# EAGLE library part EMI_SHIELD-FRAME (library moudle)
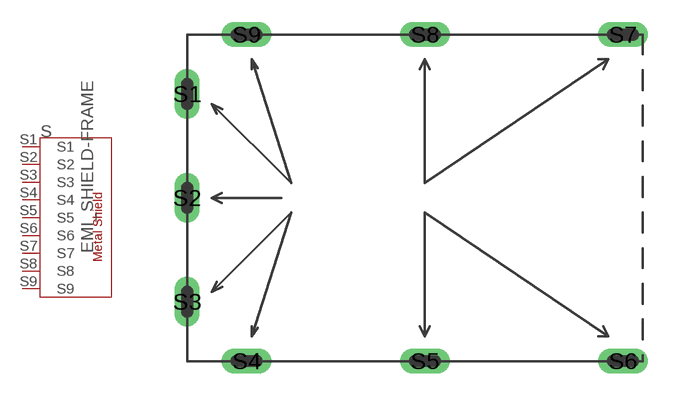
[diagram p22: symbol with the pads of BT_SHIELD; footprint BT_SHIELD]

Designator prefix S

## EMI_SHIELD-FRAME_BT  [BT_SHIELD]
S1  S1
S2  S2
S3  S3
S4  S4
S5  S5
S6  S6
S7  S7
S8  S8
S9  S9

## Footprint BT_SHIELD (pad centres in mm)
drill 0.635 pad 1.27 long: S1 0,5.25; S2 0,0; S3 0,-5.25; S4 3,-8.25; S5 12,-8.25; S6 22,-8.25; S7 22,8.25; S8 12,8.25; S9 3,8.25